# Altium footprint library PcbLib1.PcbLib: 22 footprints (part 2 of 2)
Each footprint in its own frame and in the unit in brackets; x right, y up, seen from the top. Pads: shape width x height; smd on the part's side, far side on the other; paste and mask are expansions set on the pad; w line width, h text height; cw(c..) or ccw(c..) is an arc to the next point about the centre after c.
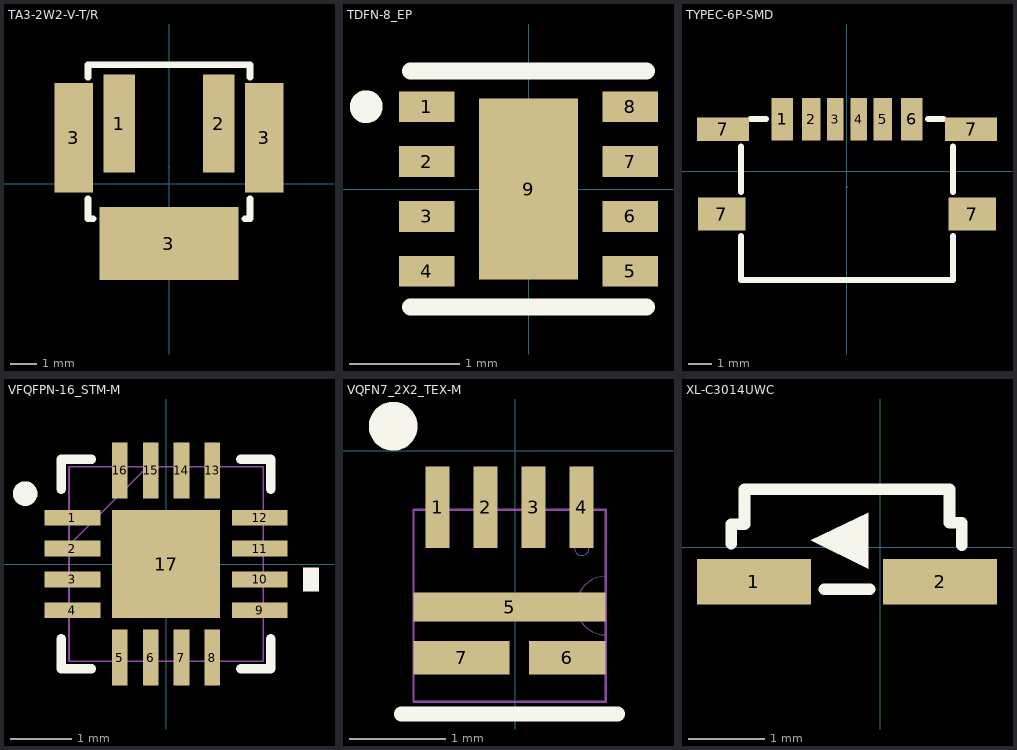
[diagram p1: the footprints below, top view; thin cyan lines are the x and y axes]

## TA3-2W2-V-T/R [mm] "https://item.szlcsc.com/513960.html"
pads (5):
  rect 1.2x3.76 smd: 1(-1.9,2.297) 2(1.9,2.297)
  rect 1.46x4.19 smd: 3(-3.65,1.753) 3(3.65,1.753)
  rect 5.33x2.79 smd: 3(0,-2.297)
Top Overlay:
  lines w0.254: -3.1,-0.574 -3.1,-1.347 -2.896,-1.347 ; -3.1,4.079 -3.1,4.553 3.1,4.553 3.1,4.079 ; 2.896,-1.347 3.1,-1.347 3.1,-0.574
Mechanical 15:
  lines w0.003: 0,0.65 0,0.65

## TDFN-8_EP [mm] "https://item.szlcsc.com/2777647.html"
pads (9):
  rect 0.505x0.28 smd: 1(-0.928,0.75) 2(-0.928,0.25) 3(-0.928,-0.25) 4(-0.928,-0.75) 5(0.928,-0.75) 6(0.928,-0.25) 7(0.928,0.25) 8(0.928,0.75)
  rect 0.9x1.65 smd: 9(0,0)
Top Overlay:
  circle w0.15: c-1.48,0.75 r0.075
  lines w0.152: -1.076,-1.076 1.076,-1.076 ; -1.076,1.076 1.076,1.076

## TYPEC-6P-SMD [mm] "https://item.szlcsc.com/2774891.html"
pads (10):
  rect 0.9x1.808 smd: 1(-2.75,2.206) 6(2.75,2.206)
  rect 0.8x1.808 smd: 2(-1.52,2.206) 5(1.52,2.206)
  rect 0.7x1.808 smd: 3(-0.5,2.206) 4(0.5,2.206)
  rect 2x1.4 smd: 7(-5.32,-1.825) 7(5.32,-1.825)
  rect 2.2x1 smd: 7(-5.269,1.775) 7(5.269,1.775)
Top Overlay:
  lines w0.254: -4.5,-2.756 -4.5,-4.625 4.5,-4.625 4.5,-2.756 ; -4.5,-0.894 -4.5,1.044 ; -4.089,2.206 -3.431,2.206 ; 3.431,2.206 4.089,2.206 ; 4.5,-0.894 4.5,1.044
Mechanical 15:
  lines w0.003: -0.025,-0.695 0.025,-0.644

## VFQFPN-16_STM-M [mm]
pads (17):
  rect 0.908x0.255 smd paste+0 mask+0: 1(-1.521,0.75) 2(-1.521,0.25) 3(-1.521,-0.25) 4(-1.521,-0.75) 9(1.521,-0.75) 10(1.521,-0.25) 11(1.521,0.25) 12(1.521,0.75)
  rect 0.255x0.908 smd paste+0 mask+0: 5(-0.75,-1.521) 6(-0.25,-1.521) 7(0.25,-1.521) 8(0.75,-1.521) 13(0.75,1.521) 14(0.25,1.521) 15(-0.25,1.521) 16(-0.75,1.521)
  rect 1.753x1.753 smd paste+0 mask+0: 17(0,0)
Top Overlay:
  circle w0.2: c-2.286,1.143 r0.1
  region: 2.229,-0.059 2.483,-0.059 2.483,-0.44 2.229,-0.44
  lines w0.152: -1.702,-1.21 -1.702,-1.702 -1.21,-1.702 ; -1.702,1.21 -1.702,1.702 -1.21,1.702 ; 1.21,-1.702 1.702,-1.702 1.702,-1.21 ; 1.21,1.702 1.702,1.702 1.702,1.21
Mechanical 13:
  lines w0.025: -1.575,0.305 -0.305,1.575 ; -1.575,-1.575 1.575,-1.575 1.575,1.575 -1.575,1.575 -1.575,-1.575
3D body "VFQFPN-16_STM.step": height 0.94, standoff 0, extent -1.575,-1.575 1.575,1.575

## VQFN7_2X2_TEX-M [mm]
pads (7):
  rect 0.25x0.85 smd paste+0 mask+0: 1(-0.809,-0.589) 2(-0.309,-0.589) 3(0.191,-0.589) 4(0.691,-0.589)
  rect 2x0.3 smd paste+0 mask+0: 5(-0.059,-1.629)
  rect 0.8x0.35 smd paste+0 mask+0: 6(0.541,-2.154)
  rect 1x0.35 smd paste+0 mask+0: 7(-0.559,-2.154)
Top Overlay:
  circle w0.254: c-1.27,0.254 r0.127
  lines w0.152: -1.186,-2.741 1.068,-2.741
Mechanical 13:
  circle w0: c0.691,-1.014 r0.076
  lines w0: 0.941,-1.919 cw(c0.941,-1.614) 0.941,-1.309
  lines w0.025: -1.059,-2.614 -1.059,-0.614 0.941,-0.614 0.941,-2.614 -1.059,-2.614

## XL-C3014UWC [mm] "https://item.szlcsc.com/3033146.html"
pads (2):
  rect 1.5x0.6 smd: 1(-1.663,-0.456) 2(0.787,-0.456)
Top Overlay:
  region: -0.918,0.094 -0.158,-0.286 -0.158,0.454
  lines w0.152: -1.962,0.048 -1.962,0.302 -1.788,0.302 -1.788,0.764 0.912,0.764 0.912,0.324 1.072,0.324 1.072,0.024 ; -0.738,-0.556 -0.138,-0.556